# Altium schematic symbol library OP213FSZ.SchLib: 1 symbol
Pins are listed as number, name and electrical type; pins without a type are passive.

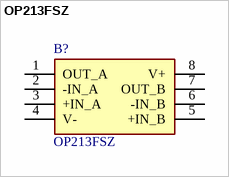
[diagram p0: symbol OP213FSZ]

## OP213FSZ
designator B?
Manufacturer_Name: Analog Devices; Geometry.Height: 1.75mm; Mouser Part Number: 584-OP213FSZ; Mouser Price/Stock: https://www.mouser.co.uk/ProductDetail/Analog-Devices/OP213FSZ?qs=WIvQP4zGanht4Vig9f9CDQ%3D%3D; Manufacturer_Part_Number: OP213FSZ; Description: OP213FSZ; Datasheet Link: https://datasheet.datasheetarchive.com/originals/distributors/SFDatasheet-4/sf-00085565.pdf
footprint SOIC127P600X175-8N
pins: 1 OUT_A, 2 -IN_A, 3 +IN_A, 4 V-, 5 +IN_B, 6 -IN_B, 7 OUT_B, 8 V+